# Altium footprint library Resistors.PcbLib: 9 footprints
Each footprint in its own frame and in the unit in brackets; x right, y up, seen from the top. Pads: shape width x height; smd on the part's side, far side on the other; paste and mask are expansions set on the pad; w line width, h text height; cw(c..) or ccw(c..) is an arc to the next point about the centre after c.
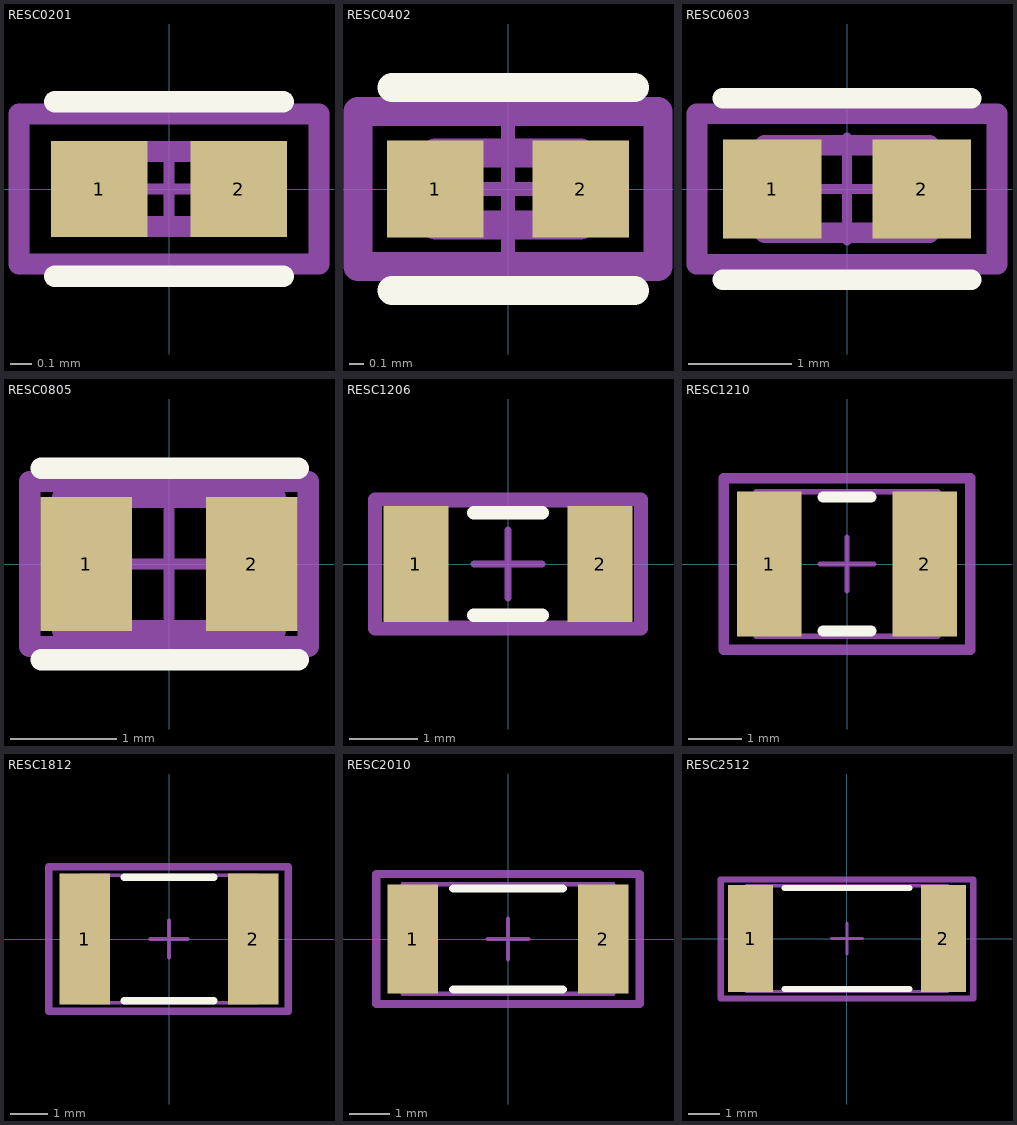
[diagram p0: the footprints below, top view; thin cyan lines are the x and y axes]

## RESC0201 [mm] "Resistor 0201 (0.6x0.3mm)"
height 0.28
pads (2):
  rect 0.45x0.45 smd mask+0: 1(-0.325,0) 2(0.325,0)
Top Overlay:
  lines w0.1: -0.533,-0.406 0.533,-0.406 ; -0.533,0.406 0.533,0.406
Top Assembly:
  lines w0.1: -0.7,-0.35 -0.7,0.35 0.7,0.35 0.7,-0.35 -0.7,-0.35
  text "'.Designator'" at -1.158,-0.33 h0.2
Top 3D Body:
  lines w0.1: -0.325,-0.175 0.325,-0.175 0.325,0.175 -0.325,0.175 -0.325,-0.175
Top Courtyard:
  lines w0.05: -0.175,0 0.175,0 ; 0,-0.175 0,0.175
  lines w0.1: -0.7,-0.35 0.7,-0.35 0.7,0.35 -0.7,0.35 -0.7,-0.35
3D body: height 0.28, standoff 0, extent 0.175,-0.175 0.325,0.175
3D body: height 0.28, standoff 0, extent -0.325,-0.175 -0.175,0.175
3D body: height 0.28, standoff 0, extent -0.175,-0.175 0.175,0.175

## RESC0402 [mm] "Resistor 0402 (1.0x0.5mm)"
height 0.4
pads (2):
  rect 0.665x0.672 smd paste+0 mask+0: 1(-0.504,0) 2(0.504,0)
Top Overlay:
  lines w0.2: -0.8,-0.7 0.872,-0.7 ; -0.8,0.7 0.872,0.7
Top Assembly:
  lines w0.2: -1.036,-0.536 1.036,-0.536 1.036,0.536 -1.036,0.536 -1.036,-0.536
  text ".Designator" at -2.251,-0.226 h1
Top 3D Body:
  lines w0.2: -0.5,-0.25 0.5,-0.25 0.5,0.25 -0.5,0.25 -0.5,-0.25
Top Courtyard:
  lines w0.2: -1.036,-0.536 1.036,-0.536 1.036,0.536 -1.036,0.536 -1.036,-0.536
Bottom Courtyard:
  lines w0.1: -0.5,0 0.5,0 ; 0,-0.5 0,0.5
3D body "Res_Vishay_MCS04020D2213BE100_eec.STEP": height 0.25, standoff 0, extent -1.036,-0.536 1.036,0.536

## RESC0603 [mm] "Resistor 0603 (1.5x0.8mm)"
height 0.4
pads (2):
  rect 0.958x0.962 smd paste+0 mask+0: 1(-0.727,0) 2(0.727,0)
Top Overlay:
  lines w0.2: -1.206,-0.881 1.206,-0.881 ; -1.206,0.881 1.206,0.881
Top Assembly:
  lines w0.2: -1.456,-0.731 1.456,-0.731 1.456,0.731 -1.456,0.731 -1.456,-0.731
  text ".Designator" at -2.251,-0.226 h1
Top 3D Body:
  lines w0.2: -0.8,-0.425 0.8,-0.425 0.8,0.425 -0.8,0.425 -0.8,-0.425
Top Courtyard:
  lines w0.2: -1.456,-0.731 1.456,-0.731 1.456,0.731 -1.456,0.731 -1.456,-0.731
Bottom Courtyard:
  lines w0.1: -0.5,0 0.5,0 ; 0,-0.5 0,0.5
3D body "Res_Vishay_CRCW06031K00FKEAHP_eec.STEP": height 0.25, standoff 0, extent -1.456,-0.731 1.456,0.731

## RESC0805 [mm] "Resistor 0805 (2.0x1.3mm)"
height 0.4
pads (2):
  rect 0.858x1.262 smd paste+0 mask+0: 1(-0.777,0) 2(0.777,0)
Top Overlay:
  lines w0.2: -1.2,-0.9 1.212,-0.9 ; -1.2,0.9 1.212,0.9
Top Assembly:
  lines w0.2: -1.306,-0.775 -1.306,0.775 1.306,0.775 1.306,-0.775 -1.306,-0.775
  text ".Designator" at -2.251,-0.226 h1
Top 3D Body:
  lines w0.2: -1,-0.625 -1,0.625 1,0.625 1,-0.625 -1,-0.625
Top Courtyard:
  lines w0.2: -1.306,-0.775 -1.306,0.775 1.306,0.775 1.306,-0.775 -1.306,-0.775
Bottom Courtyard:
  lines w0.1: -0.5,0 0.5,0 ; 0,-0.5 0,0.5
3D body "Res_Rohm_ESR10EZPF49R9_eec.STEP": height 0.25, standoff 0, extent -1.306,-0.775 1.306,0.775

## RESC1206 [mm] "Resistor 1206 (3.0x1.5mm)"
height 0.75
pads (2):
  rect 0.95x1.7 smd: 1(-1.35,0) 2(1.35,0)
Top Overlay:
  lines w0.2: -0.5,-0.75 0.5,-0.75 ; -0.5,0.75 0.5,0.75
Top Assembly:
  lines w0.2: -1.95,-0.95 -1.95,0.95 1.95,0.95 1.95,-0.95 -1.95,-0.95
  text "'.Designator'" at -3.032,-0.575 h0.5
Top 3D Body:
  lines w0.1: -1.675,-0.875 -1.675,0.875 1.675,0.875 1.675,-0.875 -1.675,-0.875
Top Courtyard:
  lines w0.1: -0.5,0 0.5,0 ; 0,-0.5 0,0.5
  lines w0.2: -1.95,-0.95 -1.95,0.95 1.95,0.95 1.95,-0.95 -1.95,-0.95
3D body: height 0.75, standoff 0, extent -1.674,-0.874 -1.18,0.875
3D body: height 0.75, standoff 0, extent -1.18,-0.874 1.181,0.875
3D body: height 0.75, standoff 0, extent 1.181,-0.874 1.675,0.875

## RESC1210 [mm] "Resistor 1210 (3.2x2.6mm)"
height 0.6
pads (2):
  rect 1.2x2.7 smd: 1(-1.45,0) 2(1.45,0)
Top Overlay:
  lines w0.2: -0.45,-1.25 0.45,-1.25 ; -0.45,1.25 0.45,1.25
Top Assembly:
  lines w0.2: -2.3,-1.6 -2.3,1.6 2.3,1.6 2.3,-1.6 -2.3,-1.6
  text "'.Designator'" at -2.932,-0.475 h0.5
Top 3D Body:
  lines w0.1: -1.7,-1.35 -1.7,1.35 1.7,1.35 1.7,-1.35 -1.7,-1.35
Top Courtyard:
  lines w0.1: -0.5,0 0.5,0 ; 0,-0.5 0,0.5
  lines w0.2: -2.3,-1.6 -2.3,1.6 2.3,1.6 2.3,-1.6 -2.3,-1.6
3D body: height 0.6, standoff 0, extent -1.25,-1.35 1.25,1.35
3D body: height 0.6, standoff 0, extent -1.7,-1.35 -1.25,1.35
3D body: height 0.6, standoff 0, extent 1.25,-1.35 1.7,1.35

## RESC1812 [mm] "Resistor 1812 (4.6x3.0mm)"
height 0.71
pads (2):
  rect 1.35x3.5 smd: 1(-2.25,0) 2(2.25,0)
Top Overlay:
  lines w0.2: -1.2,-1.65 1.2,-1.65 ; -1.2,1.65 1.2,1.65
Top Assembly:
  lines w0.2: -3.2,-1.93 3.175,-1.93 3.175,1.93 -3.2,1.93 -3.2,-1.93
  text "'.Designator'" at -4.065,-0.625 h0.7
Top 3D Body:
  lines w0.1: -2.35,-1.7 2.35,-1.7 2.35,1.7 -2.35,1.7 -2.35,-1.7
Top Courtyard:
  lines w0.1: -0.5,0 0.5,0 ; 0,-0.5 0,0.5
  lines w0.2: -3.2,-1.93 3.175,-1.93 3.175,1.93 -3.2,1.93 -3.2,-1.93
3D body: height 0.71, standoff 0, extent -2.35,-1.7 -1.8,1.7
3D body: height 0.71, standoff 0, extent -1.8,-1.699 1.801,1.7
3D body: height 0.71, standoff 0, extent 1.801,-1.7 2.35,1.7

## RESC2010 [mm] "Resistor 2010 (5.0x2.6mm)"
height 0.71
pads (2):
  rect 1.25x2.7 smd: 1(-2.35,0) 2(2.35,0)
Top Overlay:
  lines w0.2: -1.35,-1.25 1.35,-1.25 ; -1.35,1.25 1.35,1.25
Top Assembly:
  lines w0.2: -3.25,-1.6 3.25,-1.6 3.25,1.6 -3.25,1.6 -3.25,-1.6
  text "'.Designator'" at -4.065,-0.625 h0.7
Top 3D Body:
  lines w0.1: -2.6,-1.35 -2.6,1.35 2.6,1.35 2.6,-1.35 -2.6,-1.35
Top Courtyard:
  lines w0.1: -0.5,0 0.5,0 ; 0,-0.5 0,0.5
  lines w0.2: -3.25,-1.6 -3.25,1.6 3.25,1.6 3.25,-1.6 -3.25,-1.6
3D body: height 0.71, standoff 0, extent -2.6,-1.35 -1.98,1.35
3D body: height 0.71, standoff 0, extent -1.98,-1.35 1.98,1.35
3D body: height 0.71, standoff 0, extent 1.98,-1.35 2.6,1.35

## RESC2512 [mm] "Resistor 2512 (6.3x3.1mm)"
height 0.75
pads (2):
  rect 1.45x3.45 smd: 1(-3.1,0) 2(3.1,0)
Top Overlay:
  lines w0.2: -2,-1.625 2,-1.625 ; -2,1.625 2,1.625
Top Assembly:
  lines w0.2: -4.064,-1.93 -4.064,1.905 4.064,1.905 4.064,-1.93 -4.064,-1.93
  text "'.Designator'" at -5.248,-0.825 h0.9
Top 3D Body:
  lines w0.1: -3.25,-1.7 -3.25,1.7 3.25,1.7 3.25,-1.7 -3.25,-1.7
Top Courtyard:
  lines w0.1: -0.5,0 0.5,0 ; 0,-0.5 0,0.5
  lines w0.2: -4.064,-1.93 -4.064,1.905 4.064,1.905 4.064,-1.93 -4.064,-1.93
3D body: height 0.75, standoff 0, extent -3.25,-1.7 -2.63,1.7
3D body: height 0.75, standoff 0, extent -2.63,-1.7 2.63,1.7
3D body: height 0.75, standoff 0, extent 2.63,-1.7 3.25,1.7